# EAGLE library part LP5996 (library RGB_POI_STICK)
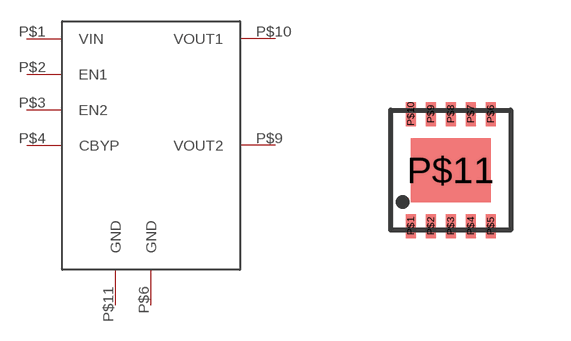
[diagram p5: symbol with the pads of LLP-10; footprint LLP-10]

Designator prefix -

## LP5996  [LLP-10]
P$1  VIN
P$2  EN1
P$3  EN2
P$4  CBYP
P$6  GND
P$9  VOUT2
P$10  VOUT1
P$11  GND

## Footprint LLP-10 (pad centres in mm)
smd 0.25 x 0.6: P$1 -1,-1.4; P$2 -0.5,-1.4; P$3 0,-1.4; P$4 0.5,-1.4; P$5 1,-1.4; P$6 1,1.4; P$7 0.5,1.4; P$8 0,1.4; P$9 -0.5,1.4; P$10 -1,1.4
smd 2 x 1.6: P$11 0,0